# EAGLE library part LT1962 (library NewSDR)
Linear Technology 300 mA LDO Voltage Regulator
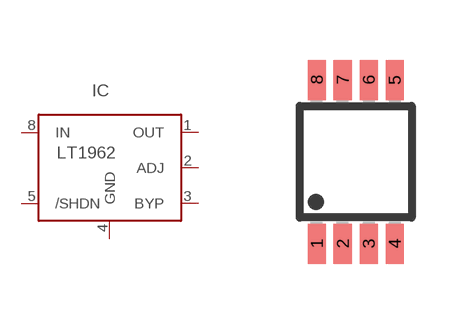
[diagram p98: symbol with the pads of MSOP8; footprint MSOP8]

Designator prefix IC

## LT1962, LT1962-1.5, LT1962-1.8, LT1962-2.5, LT1962-3, LT1962-3.3, LT1962-5  [MSOP8]
1  OUT  pas
2  ADJ  pas
3  BYP  pas
4  GND  in
5  /SHDN  in
8  IN  in

## Footprint MSOP8 (pad centres in mm)
Micro Small Outline Package
smd 0.45 x 1: 1 -0.975,-2.05; 2 -0.325,-2.05; 3 0.325,-2.05; 4 0.975,-2.05; 5 0.975,2.05; 6 0.325,2.05; 7 -0.325,2.05; 8 -0.975,2.05